# EAGLE library part NHD-5.0-800480TF-ATXI#-CTP-TFT (library keves)
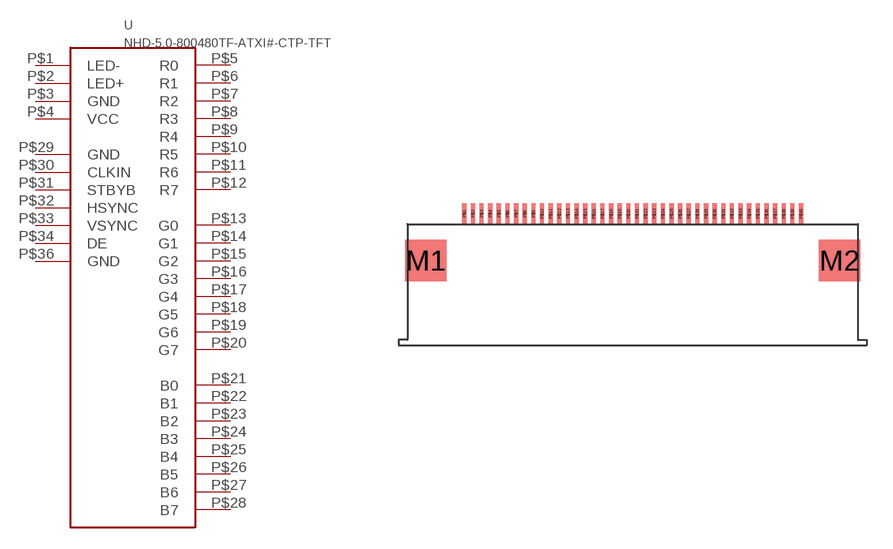
[diagram p13: symbol with the pads of MOLEX-54132-4097; footprint MOLEX-54132-4097]

Designator prefix -

## NHD-5.0-800480TF-ATXI#-CTP-TFT  [MOLEX-54132-4097]
P$1  LED-
P$2  LED+
P$3  GND
P$4  VCC
P$5  R0
P$6  R1
P$7  R2
P$8  R3
P$9  R4
P$10  R5
P$11  R6
P$12  R7
P$13  G0
P$14  G1
P$15  G2
P$16  G3
P$17  G4
P$18  G5
P$19  G6
P$20  G7
P$21  B0
P$22  B1
P$23  B2
P$24  B3
P$25  B4
P$26  B5
P$27  B6
P$28  B7
P$29  GND
P$30  CLKIN
P$31  STBYB
P$32  HSYNC
P$33  VSYNC
P$34  DE
P$36  GND

## Footprint MOLEX-54132-4097 (pad centres in mm)
smd 2.4 x 2.4: M1 -11.975,-2.7; M2 11.975,-2.7
smd 0.25 x 1.2: P$1 -9.75,0; P$2 -9.25,0; P$3 -8.75,0; P$4 -8.25,0; P$5 -7.75,0; P$6 -7.25,0; P$7 -6.75,0; P$8 -6.25,0; P$9 -5.75,0; P$10 -5.25,0; P$11 -4.75,0; P$12 -4.25,0; P$13 -3.75,0; P$14 -3.25,0; P$15 -2.75,0; P$16 -2.25,0; P$17 -1.75,0; P$18 -1.25,0; P$19 -0.75,0; P$20 -0.25,0; P$21 0.25,0; P$22 0.75,0; P$23 1.25,0; P$24 1.75,0; P$25 2.25,0; P$26 2.75,0; P$27 3.25,0; P$28 3.75,0; P$29 4.25,0; P$30 4.75,0; P$31 5.25,0; P$32 5.75,0; P$33 6.25,0; P$34 6.75,0; P$35 7.25,0; P$36 7.75,0; P$37 8.25,0; P$38 8.75,0; P$39 9.25,0; P$40 9.75,0